# Altium schematic symbol library MAX6126.SchLib: 1 symbol
Pins are listed as number, name and electrical type; pins without a type are passive.

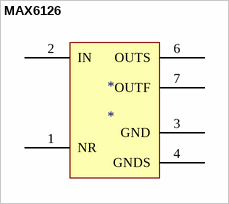
[diagram p0: symbol MAX6126]

## MAX6126
designator *
footprint SOIC127P600X175-8N(lm358) (SOIC, 8-Leads, Body 4.90x3.90mm, Pitch 1.27mm, IPC Medium Density)
pins: 1 NR, 2 IN, 3 GND, 4 GNDS, 6 OUTS, 7 OUTF